# EAGLE library part ADUCM350 (library BiomedicalImagingLibrary)
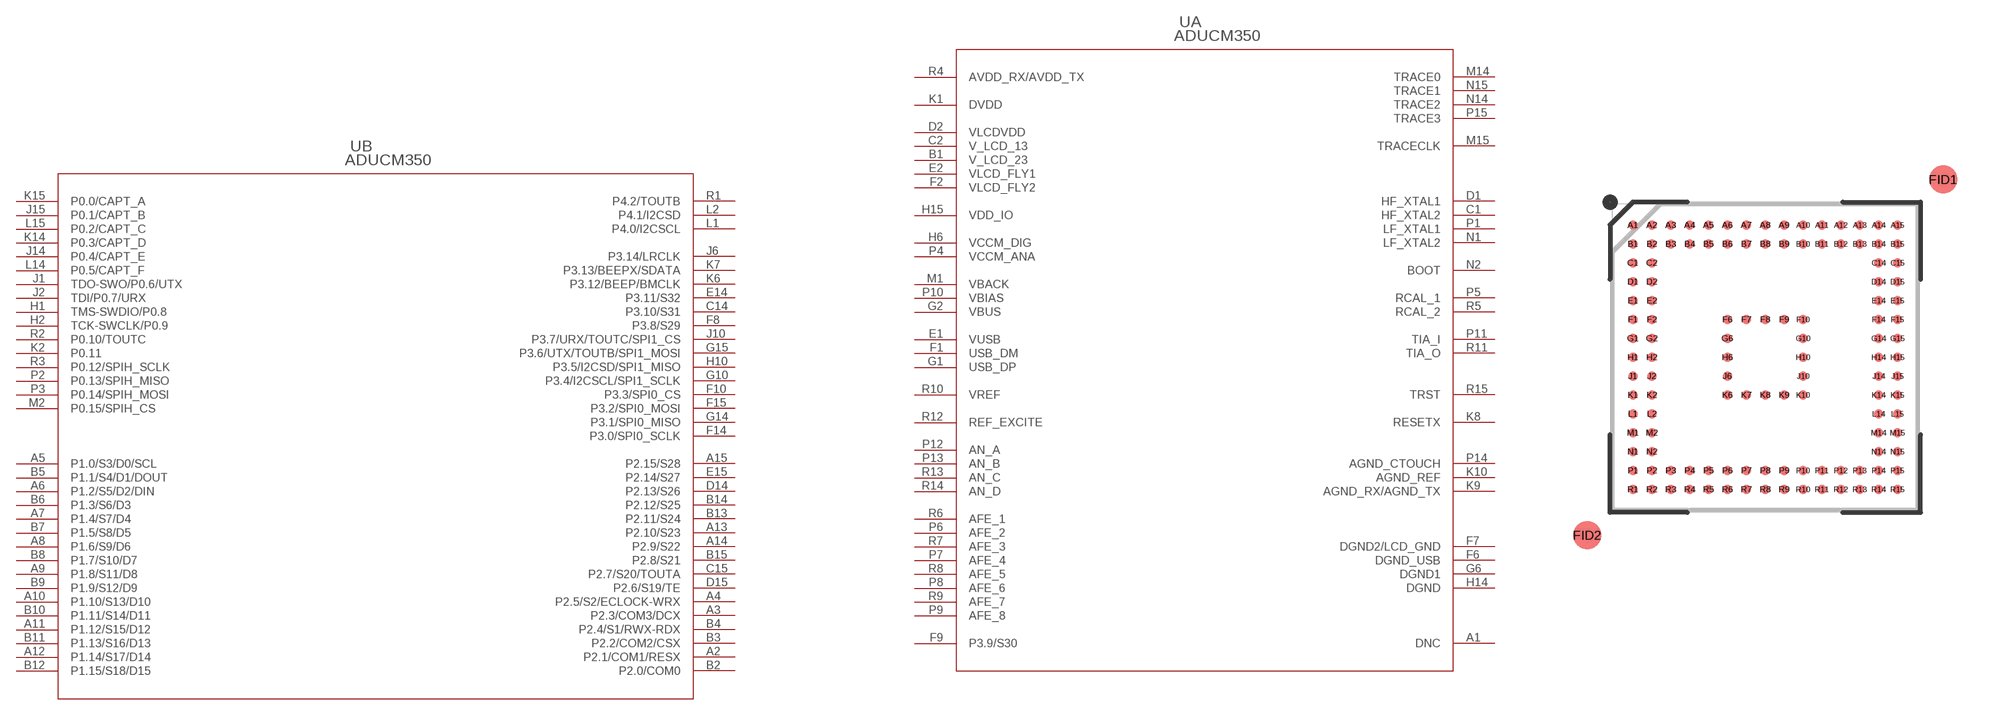
[diagram p1: symbol with the pads of ADUCM350_DUNCAN; footprint ADUCM350_DUNCAN]

Designator prefix U; gates A=ADUCM350BBCZ_A B=ADUCM350BBCZ_B

## ADUCM350  [ADUCM350_DUNCAN]
A1  A:DNC  pas
A2  B:P2.1/COM1/RESX  pas
A3  B:P2.3/COM3/DCX  pas
A4  B:P2.5/S2/ECLOCK-WRX  pas
A5  B:P1.0/S3/D0/SCL  pas
A6  B:P1.2/S5/D2/DIN  pas
A7  B:P1.4/S7/D4  pas
A8  B:P1.6/S9/D6  pas
A9  B:P1.8/S11/D8  pas
A10  B:P1.10/S13/D10  pas
A11  B:P1.12/S15/D12  pas
A12  B:P1.14/S17/D14  pas
A13  B:P2.10/S23  pas
A14  B:P2.9/S22  pas
A15  B:P2.15/S28  pas
B1  A:V_LCD_23  pas
B2  B:P2.0/COM0  pas
B3  B:P2.2/COM2/CSX  pas
B4  B:P2.4/S1/RWX-RDX  pas
B5  B:P1.1/S4/D1/DOUT  pas
B6  B:P1.3/S6/D3  pas
B7  B:P1.5/S8/D5  pas
B8  B:P1.7/S10/D7  pas
B9  B:P1.9/S12/D9  pas
B10  B:P1.11/S14/D11  pas
B11  B:P1.13/S16/D13  pas
B12  B:P1.15/S18/D15  pas
B13  B:P2.11/S24  pas
B14  B:P2.12/S25  pas
B15  B:P2.8/S21  pas
C1  A:HF_XTAL2  pas
C2  A:V_LCD_13  pas
C14  B:P3.10/S31  pas
C15  B:P2.7/S20/TOUTA  pas
D1  A:HF_XTAL1  pas
D2  A:VLCDVDD  pas
D14  B:P2.13/S26  pas
D15  B:P2.6/S19/TE  pas
E1  A:VUSB  pas
E2  A:VLCD_FLY1  pas
E14  B:P3.11/S32  pas
E15  B:P2.14/S27  pas
F1  A:USB_DM  pas
F2  A:VLCD_FLY2  pas
F6  A:DGND_USB  pas
F7  A:DGND2/LCD_GND  pas
F8  B:P3.8/S29  pas
F9  A:P3.9/S30  pas
F10  B:P3.3/SPI0_CS  pas
F14  B:P3.0/SPI0_SCLK  pas
F15  B:P3.2/SPI0_MOSI  pas
G1  A:USB_DP  pas
G2  A:VBUS  pas
G6  A:DGND1  pas
G10  B:P3.4/I2CSCL/SPI1_SCLK  pas
G14  B:P3.1/SPI0_MISO  pas
G15  B:P3.6/UTX/TOUTB/SPI1_MOSI  pas
H1  B:TMS-SWDIO/P0.8  pas
H2  B:TCK-SWCLK/P0.9  pas
H6  A:VCCM_DIG  pas
H10  B:P3.5/I2CSD/SPI1_MISO  pas
H14  A:DGND  pas
H15  A:VDD_IO  pas
J1  B:TDO-SWO/P0.6/UTX  pas
J2  B:TDI/P0.7/URX  pas
J6  B:P3.14/LRCLK  pas
J10  B:P3.7/URX/TOUTC/SPI1_CS  pas
J14  B:P0.4/CAPT_E  pas
J15  B:P0.1/CAPT_B  pas
K1  A:DVDD  pas
K2  B:P0.11  pas
K6  B:P3.12/BEEP/BMCLK  pas
K7  B:P3.13/BEEPX/SDATA  pas
K8  A:RESETX  pas
K9  A:AGND_RX/AGND_TX  pas
K10  A:AGND_REF  pas
K14  B:P0.3/CAPT_D  pas
K15  B:P0.0/CAPT_A  pas
L1  B:P4.0/I2CSCL  pas
L2  B:P4.1/I2CSD  pas
L14  B:P0.5/CAPT_F  pas
L15  B:P0.2/CAPT_C  pas
M1  A:VBACK  pas
M2  B:P0.15/SPIH_CS  pas
M14  A:TRACE0  pas
M15  A:TRACECLK  pas
N1  A:LF_XTAL2  pas
N2  A:BOOT  pas
N14  A:TRACE2  pas
N15  A:TRACE1  pas
P1  A:LF_XTAL1  pas
P2  B:P0.13/SPIH_MISO  pas
P3  B:P0.14/SPIH_MOSI  pas
P4  A:VCCM_ANA  pas
P5  A:RCAL_1  pas
P6  A:AFE_2  pas
P7  A:AFE_4  pas
P8  A:AFE_6  pas
P9  A:AFE_8  pas
P10  A:VBIAS  pas
P11  A:TIA_I  pas
P12  A:AN_A  pas
P13  A:AN_B  pas
P14  A:AGND_CTOUCH  pas
P15  A:TRACE3  pas
R1  B:P4.2/TOUTB  pas
R2  B:P0.10/TOUTC  pas
R3  B:P0.12/SPIH_SCLK  pas
R4  A:AVDD_RX/AVDD_TX  pas
R5  A:RCAL_2  pas
R6  A:AFE_1  pas
R7  A:AFE_3  pas
R8  A:AFE_5  pas
R9  A:AFE_7  pas
R10  A:VREF  pas
R11  A:TIA_O  pas
R12  A:REF_EXCITE  pas
R13  A:AN_C  pas
R14  A:AN_D  pas
R15  A:TRST  pas

## Footprint ADUCM350_DUNCAN (pad centres in mm)
Ball Grid Array (BGA), 0.50 mm pitch,square;225 pin,8.00 mm L X 8.00 mm W X 1.30 mm H body PCB Libraries Packages
smd 0.25 x 0.25: A1 -3.5,3.5; A2 -3,3.5; A3 -2.5,3.5; A4 -2,3.5; A5 -1.5,3.5; A6 -1,3.5; A7 -0.5,3.5; A8 0,3.5; A9 0.5,3.5; A10 1,3.5; A11 1.5,3.5; A12 2,3.5; A13 2.5,3.5; A14 3,3.5; A15 3.5,3.5; B1 -3.5,3; B2 -3,3; B3 -2.5,3; B4 -2,3; B5 -1.5,3; B6 -1,3; B7 -0.5,3; B8 0,3; B9 0.5,3; B10 1,3; B11 1.5,3; B12 2,3; B13 2.5,3; B14 3,3; B15 3.5,3; C1 -3.5,2.5; C2 -3,2.5; C14 3,2.5; C15 3.5,2.5; D1 -3.5,2; D2 -3,2; D14 3,2; D15 3.5,2; E1 -3.5,1.5; E2 -3,1.5; E14 3,1.5; E15 3.5,1.5; F1 -3.5,1; F2 -3,1; F6 -1,1; F7 -0.5,1; F8 0,1; F9 0.5,1; F10 1,1; F14 3,1; F15 3.5,1; G1 -3.5,0.5; G2 -3,0.5; G6 -1,0.5; G10 1,0.5; G14 3,0.5; G15 3.5,0.5; H1 -3.5,0; H2 -3,0; H6 -1,0; H10 1,0; H14 3,0; H15 3.5,0; J1 -3.5,-0.5; J2 -3,-0.5; J6 -1,-0.5; J10 1,-0.5; J14 3,-0.5; J15 3.5,-0.5; K1 -3.5,-1; K2 -3,-1; K6 -1,-1; K7 -0.5,-1; K8 0,-1; K9 0.5,-1; K10 1,-1; K14 3,-1; K15 3.5,-1; L1 -3.5,-1.5; L2 -3,-1.5; L14 3,-1.5; L15 3.5,-1.5; M1 -3.5,-2; M2 -3,-2; M14 3,-2; M15 3.5,-2; N1 -3.5,-2.5; N2 -3,-2.5; N14 3,-2.5; N15 3.5,-2.5; P1 -3.5,-3; P2 -3,-3; P3 -2.5,-3; P4 -2,-3; P5 -1.5,-3; P6 -1,-3; P7 -0.5,-3; P8 0,-3; P9 0.5,-3; P10 1,-3; P11 1.5,-3; P12 2,-3; P13 2.5,-3; P14 3,-3; P15 3.5,-3; R1 -3.5,-3.5; R2 -3,-3.5; R3 -2.5,-3.5; R4 -2,-3.5; R5 -1.5,-3.5; R6 -1,-3.5; R7 -0.5,-3.5; R8 0,-3.5; R9 0.5,-3.5; R10 1,-3.5; R11 1.5,-3.5; R12 2,-3.5; R13 2.5,-3.5; R14 3,-3.5; R15 3.5,-3.5
smd 0.75 x 0.75: FID1 4.71,4.71; FID2 -4.71,-4.71